# Altium footprint library WB_RCL.PcbLib: 19 footprints (part 1 of 2)
Each footprint in its own frame and in the unit in brackets; x right, y up, seen from the top. Pads: shape width x height; smd on the part's side, far side on the other; paste and mask are expansions set on the pad; w line width, h text height; cw(c..) or ccw(c..) is an arc to the next point about the centre after c.
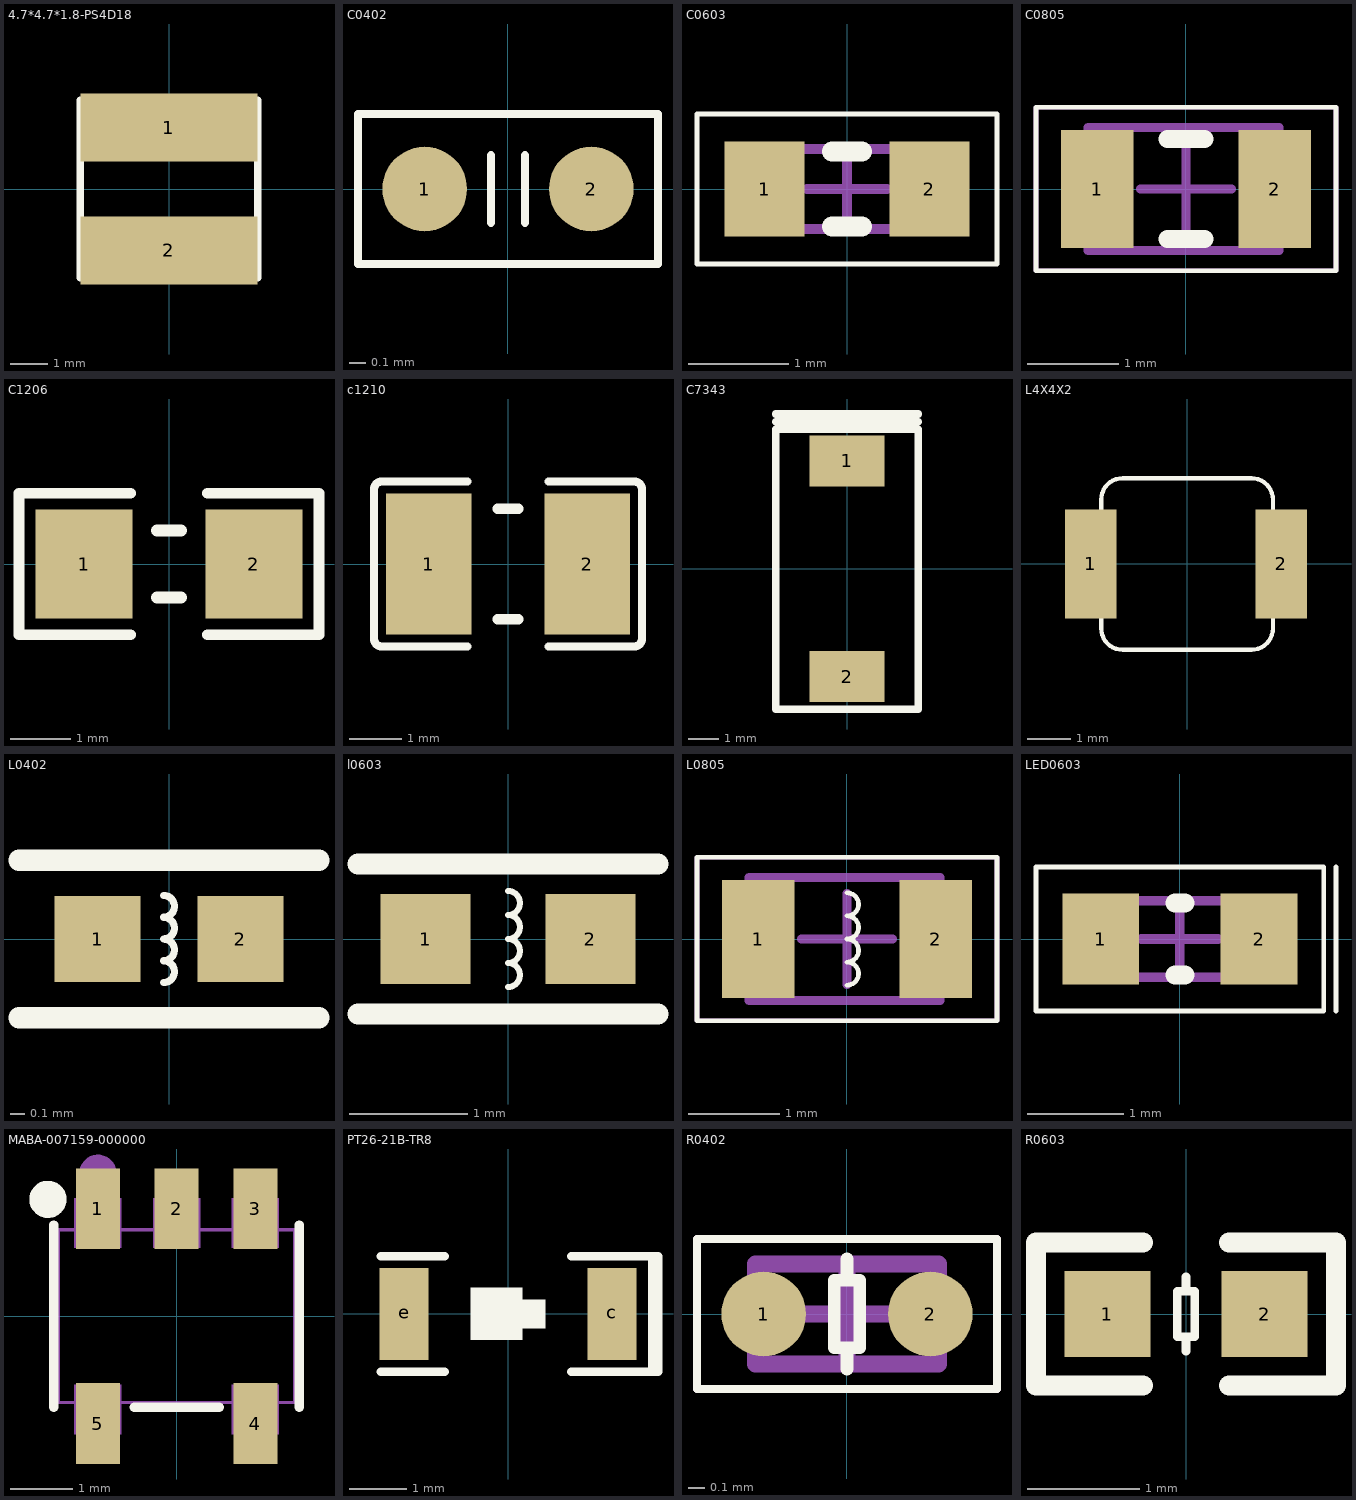
[diagram p0: the footprints below, top view; thin cyan lines are the x and y axes]

## 4.7*4.7*1.8-PS4D18 [mm]
pads (2):
  rect 4.7x1.8 smd: 1(0,1.623) 2(0,-1.623)
Top Overlay:
  lines w0.203: -2.35,-2.35 2.35,-2.35 2.35,2.35 -2.35,2.35 -2.35,0 -2.35,-2.35

## C0402 [mil]
height 11.81
pads (2):
  round 20 smd: 1(-19.68,0) 2(19.68,0)
Top Overlay:
  lines w1.97: -4,-8 -4,0 -4,8 ; 4,-8 4,0 4,8 ; -35.43,-17.72 35.43,-17.72 35.43,17.72 -35.43,17.72 -35.43,-17.72

## C0603 [mm]
height 1.2
pads (2):
  rect 0.8x0.95 smd: 1(-0.825,0) 2(0.825,0)
Top Overlay:
  lines w0.05: -1.5,-0.75 1.5,-0.75 1.5,0.75 -1.5,0.75 -1.5,-0.75
  lines w0.2: -0.152,-0.375 0.152,-0.375 ; -0.152,0.375 0.152,0.375
Mechanical 13:
  lines w0.1: -0.8,-0.4 0.8,-0.4 0.8,0.4 -0.8,0.4 -0.8,-0.4
Mechanical 15:
  lines w0.1: -0.4,0 0.4,0 ; 0,-0.4 0,0.4
3D body "C 0603.STEP": height 0.81, standoff -0.01, extent -0.8,-0.41 0.8,0.41

## C0805 [mm]
height 0.5
pads (2):
  rect 0.8x1.3 smd: 1(-0.975,0) 2(0.975,0)
Top Overlay:
  lines w0.05: -1.65,-0.9 -1.65,0.9 1.65,0.9 1.65,-0.9 -1.65,-0.9
  lines w0.2: -0.2,-0.55 0.2,-0.55 ; -0.2,0.55 0.2,0.55
Mechanical 13:
  lines w0.1: -1.075,-0.675 1.025,-0.675 1.025,0.675 -1.075,0.675 -1.075,-0.675
Mechanical 15:
  lines w0.05: -1.65,-0.9 -1.65,0.9 1.65,0.9 1.65,-0.9 -1.65,-0.9
  lines w0.1: -0.5,0 0.5,0 ; 0,-0.5 0,0.5
3D body "C 0805.STEP": height 0.51, standoff -0.01, extent -1,-0.61 1,0.61

## C1206 [mm]
pads (2):
  rect 1.6x1.8 smd: 1(-1.4,0) 2(1.4,0)
Top Overlay:
  lines w0.178: -0.635,-1.168 -2.476,-1.168 -2.476,1.168 -0.635,1.168 ; 0.635,-1.168 2.476,-1.168 2.476,1.168 0.635,1.168
  lines w0.2: -0.2,-0.55 0.2,-0.55 ; -0.2,0.55 0.2,0.55
3D body "C 1206.STEP": height 1.21, standoff -0.01, extent -1.6,-0.81 1.6,0.81

## c1210 [mm]
pads (2):
  rect 1.635x2.7 smd: 1(-1.517,0) 2(1.517,0)
Top Overlay:
  lines w0.152: -0.776,-1.579 -2.411,-1.579 cw(c-2.411,-1.426) -2.564,-1.426 -2.564,1.426 cw(c-2.411,1.426) -2.411,1.579 -0.776,1.579 ; 0.776,-1.579 2.411,-1.579 ccw(c2.411,-1.426) 2.564,-1.426 2.564,1.426 ccw(c2.411,1.426) 2.411,1.579 0.776,1.579
  lines w0.2: -0.2,-1.058 0.2,-1.058 ; -0.2,1.058 0.2,1.058
Top Paste:
  region: 0.7,-1.25 0.7,-0.559 0.8,-0.459 1.156,-0.459 1.256,-0.359 1.256,0.359 1.156,0.459 0.8,0.459 0.7,0.559 0.7,1.25 0.8,1.35 2.235,1.35 2.335,1.25 2.335,-1.25 2.235,-1.35 0.8,-1.35
  region: -0.7,-1.25 -0.7,-0.559 -0.8,-0.459 -1.156,-0.459 -1.256,-0.359 -1.256,0.359 -1.156,0.459 -0.8,0.459 -0.7,0.559 -0.7,1.25 -0.8,1.35 -2.235,1.35 -2.335,1.25 -2.335,-1.25 -2.235,-1.35 -0.8,-1.35

## C7343 [mil] "C7343"
pads (2):
  rect 98x67 smd: 1(0,141.66) 2(0,-141.66)
Top Overlay:
  lines w9.84: -93.58,-143.79 -93.58,-184.38 93.58,-184.38 93.58,-143.79
  lines w10: -93.58,-143.79 -93.58,183.16 ; -93.58,193.16 93.58,193.16 ; -93.58,203.16 93.58,203.16 ; 93.58,-143.79 93.58,183.16 ; -93.58,183.16 93.58,183.16 ; -93.58,183.16 93.58,183.16

## L4X4X2 [mm] "L4X4X2"
pads (2):
  rect 1.2x2.54 smd: 1(-2.25,0) 2(2.2,0)
Top Overlay:
  lines w0.1: -2,-1.5 ccw(c-1.5,-1.5) -1.5,-2 1.5,-2 ccw(c1.5,-1.5) 2,-1.5 2,1.5 ccw(c1.5,1.5) 1.5,2 -1.5,2 ccw(c-1.5,1.5) -2,1.5 -2,-1.5
Mechanical 7:
  text "2" at 2.2,-0.2 h0.5
  text "1" at -2.25,-0.2 h0.5
Mechanical 8:
  lines w0.025: -2,-1.5 ccw(c-1.5,-1.5) -1.5,-2 1.5,-2 ccw(c1.5,-1.5) 2,-1.5 2,1.5 ccw(c1.5,1.5) 1.5,2 -1.5,2 ccw(c-1.5,1.5) -2,1.5 -2,-1.5

## L0402 [mm]
pads (2):
  rect 0.6x0.6 smd: 1(-0.5,0) 2(0.5,0)
Top Overlay:
  lines w0.051: -0.038,-0.305 ccw(c-0.038,-0.229) -0.038,-0.152 ccw(c-0.038,-0.076) -0.038,0 ccw(c-0.038,0.076) -0.038,0.152 ccw(c-0.038,0.229) -0.038,0.305
  lines w0.15: -1.05,-0.55 -0.2,-0.55 0.2,-0.55 1.05,-0.55 ; -1.05,0.55 -0.2,0.55 0.2,0.55 1.05,0.55

## l0603 [mil]
pads (2):
  rect 30x30 smd: 1(-27.5,0) 2(27.5,0)
Top Overlay:
  lines w2: 0,-16 ccw(c0,-12) 0,-8 ccw(c0,-4) 0,0 ccw(c0,4) 0,8 ccw(c0,12) 0,16
  lines w7: -50,-25 50,-25 ; -50,25 50,25

## L0805 [mm]
height 0.5
pads (2):
  rect 0.8x1.3 smd: 1(-0.975,0) 2(0.975,0)
Top Overlay:
  lines w0.05: -1.65,-0.9 -1.65,0.9 1.65,0.9 1.65,-0.9 -1.65,-0.9
  lines w0.051: 0,-0.508 ccw(c0,-0.381) 0,-0.254 ccw(c0,-0.127) 0,0 ccw(c0,0.127) 0,0.254 ccw(c0,0.381) 0,0.508
Mechanical 13:
  lines w0.1: -1.075,-0.675 1.025,-0.675 1.025,0.675 -1.075,0.675 -1.075,-0.675
Mechanical 15:
  lines w0.05: -1.65,-0.9 -1.65,0.9 1.65,0.9 1.65,-0.9 -1.65,-0.9
  lines w0.1: -0.5,0 0.5,0 ; 0,-0.5 0,0.5
3D body "0805.STEP": height 0.9, standoff 0, extent -1,-0.6 1,0.6

## LED0603 [mm]
height 1.2
pads (2):
  rect 0.8x0.95 smd: 1(-0.825,0) 2(0.825,0)
Top Overlay:
  lines w0.05: 1.627,-0.75 1.627,0.75 ; -1.5,-0.75 -1.5,0.75 1.5,0.75 1.5,-0.75 -1.5,-0.75
  lines w0.2: -0.05,-0.375 0.05,-0.375 ; -0.05,0.375 0.05,0.375
Mechanical 13:
  lines w0.1: -0.8,-0.4 -0.8,0.4 0.8,0.4 0.8,-0.4 -0.8,-0.4
Mechanical 15:
  lines w0.1: -0.4,0 0.4,0 ; 0,-0.4 0,0.4
3D body "LED 0603-R.STEP": height 0.47, standoff 0, extent -0.8,-0.401 0.8,0.401

## MABA-007159-000000 [mm]
pads (5):
  rect 0.711x1.305 smd: 1(-1.27,1.733) 2(0,1.733) 3(1.27,1.733) 4(1.27,-1.733) 5(-1.27,-1.733)
Top Overlay:
  circle w0.3: c-2.078,1.885 r0.15
  lines w0.152: -1.981,-1.471 -1.981,1.471 ; -0.686,-1.471 0.686,-1.471 ; 1.981,-1.471 1.981,1.471
Mechanical 6:
  circle w0.3: c-1.27,2.305 r0.15
Mechanical 15:
  region: -1.65,-1.105 -0.89,-1.105 -0.89,-1.905 -1.65,-1.905
  region: 0.89,-1.105 1.65,-1.105 1.65,-1.905 0.89,-1.905
  region: 0.89,1.105 1.65,1.105 1.65,1.905 0.89,1.905
  region: -0.38,1.105 0.38,1.105 0.38,1.905 -0.38,1.905
  region: -1.65,1.105 -0.89,1.105 -0.89,1.905 -1.65,1.905
  region: -1.845,1.905 -1.845,1.93 -1.88,1.965 -1.93,1.965 -1.965,1.93 -1.965,1.905 -1.965,1.88 -1.93,1.845 -1.88,1.845 -1.845,1.88 -1.845,1.905
  lines w0.051: -1.905,-1.395 -1.905,1.395 1.905,1.395 1.905,-1.395 -1.905,-1.395

## PT26-21B-TR8 [mm]
pads (2):
  rect 0.85x1.6 smd: c(1.8,0) e(-1.8,0)
Top Overlay:
  region: -0.65,0.45 0.25,0.45 0.25,0.25 0.65,0.25 0.65,-0.25 0.25,-0.25 0.25,-0.45 -0.65,-0.45
  lines w0.152: -2.2,-1.002 -1.1,-1.002 ; -2.2,1 -1.1,1 ; 1.1,-1.002 2.2,-1.002 2.201,-1 2.5,-1 ; 1.1,1 2.2,1 2.5,1 ; 2.5,-1 2.6,-1 2.6,1 2.5,1 ; 2.5,-1 2.5,1
Mechanical 6:
  region: -1.6,-0.25 -1.6,-0.35 -2,-0.35 -2,0.35 -1.6,0.35 -1.6,0.25 -1.9,0.25 -1.9,0.05 -1.6,0.05 -1.6,-0.05 -1.9,-0.05 -1.9,-0.25
  region: 2.05,0.25 1.95,0.35 1.75,0.35 1.65,0.35 1.55,0.25 1.55,-0.25 1.65,-0.35 1.95,-0.35 2.05,-0.25 2.05,-0.15 1.95,-0.15 1.95,-0.25 1.65,-0.25 1.65,0.25 1.95,0.25 1.95,0.15 2.05,0.15

## R0402 [mil]
height 11.81
pads (2):
  round 20 smd: 1(-19.68,0) 2(19.68,0)
Top Overlay:
  lines w1.97: -35.43,-17.72 35.43,-17.72 35.43,17.72 -35.43,17.72 -35.43,-17.72
  lines w3: 0,-13 0,-8 ; 0,8 0,13 ; -3,-8 -3,0 -3,8 3,8 3,0 3,-8 -3,-8
Mechanical 13:
  lines w3.94: -21.65,-11.81 -21.65,11.81 21.65,11.81 21.65,-11.81 -21.65,-11.81
Mechanical 15:
  lines w1.97: -35.43,-17.72 35.43,-17.72 35.43,17.72 -35.43,17.72 -35.43,-17.72
  lines w3.94: -9.84,0 9.84,0 ; 0,-9.84 0,9.84
3D body "R0402.STEP": height 13.78, standoff 0, extent -19.68,-9.84 19.69,9.85

## R0603 [mil] "Chip Inductor, Body 0.6x0.3mm, IPC High Density"
height 21.65
pads (2):
  rect 30x30 smd: 1(-27.5,0) 2(27.5,0)
Top Overlay:
  lines w3: 0,-13 0,-8 ; 0,8 0,13 ; -3,-8 3,-8 3,0 3,8 -3,8 -3,0 -3,-8
  lines w7: -15,-25 -52.5,-25 -52.5,25 -15,25 ; 15,-25 52.5,-25 52.5,25 15,25